# Altium integrated library NSC Amplifier.IntLib: 737 symbols (part 2 of 19)
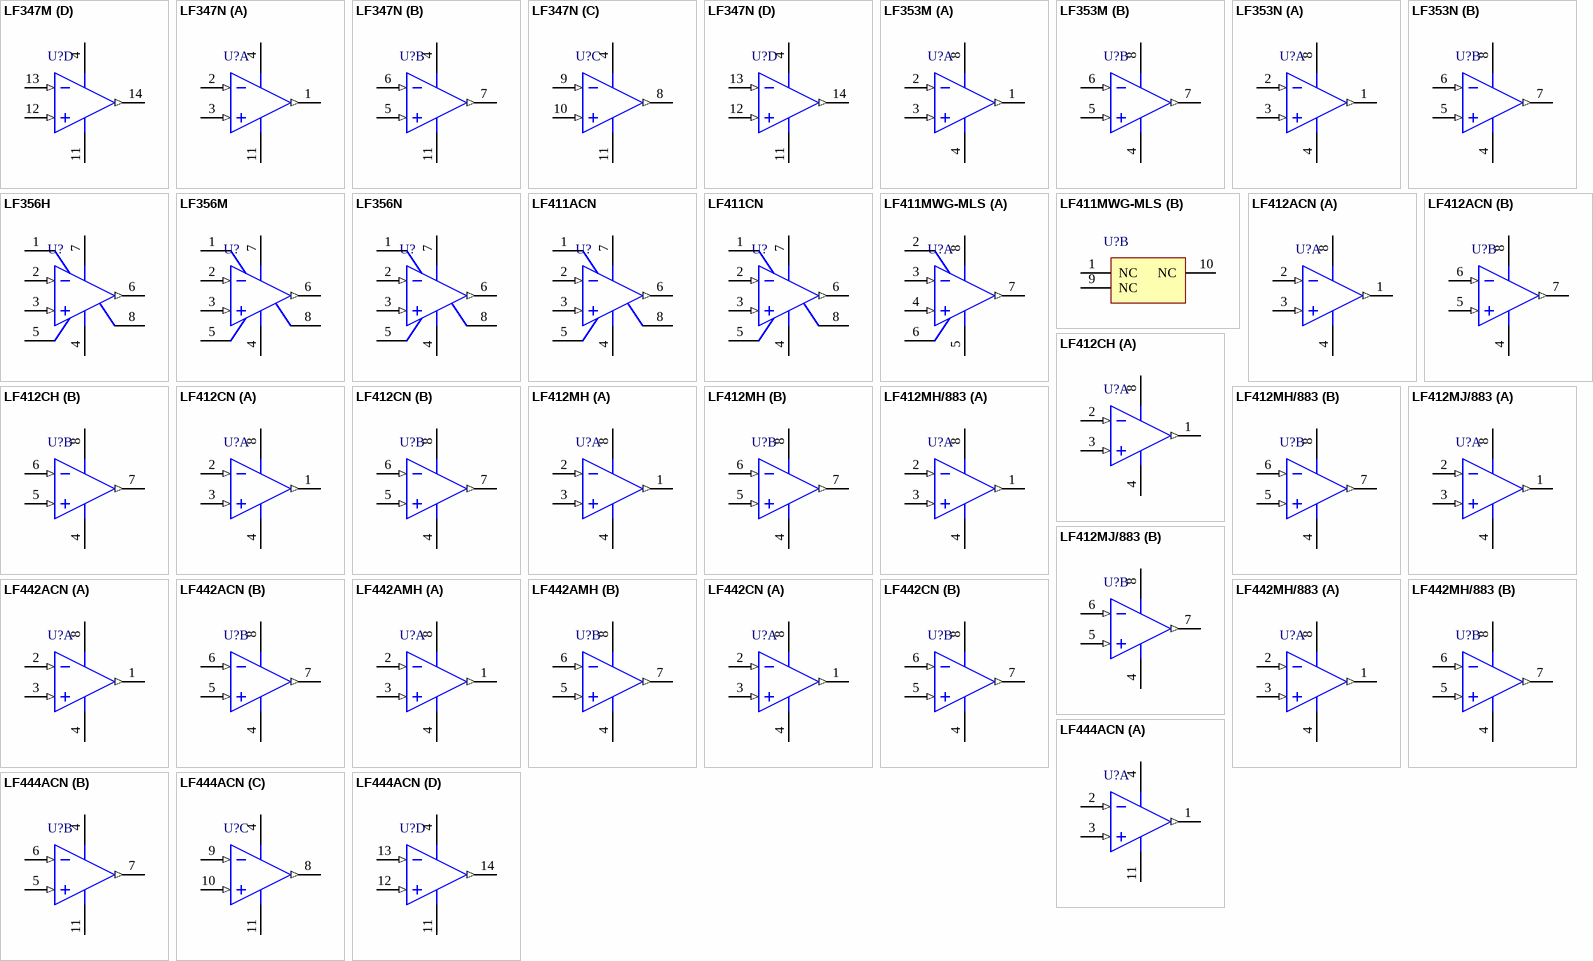
[diagram p40: symbols LF347M to LF444ACN]

## LF412MJ/883
designator U?
Low Offset, Low Drift Dual JFET Input Operational Amplifier; PartNumber: LF412MJ/883; Manufacturer: National Semiconductor; CompType: Amplifiers; PackageTopMarking: NSZSSXXYYA*LF412MJ/*883 Q; PowerWise: N; Published: 4-Dec-2008; LatestRevisionDate: 13-Jan-2009; LatestRevisionNote: Sim Model Added.; DatasheetVersion: Aug-2000; PackageVersion: revM, Jul-2002; PackageReference: J08A; Publisher: Altium Limited; PackageDescription: Cerdip, .400 x .310in Body, 8 Lead, .300in Centers, .100in Pitch; RoHS: N; PinCount: 8; ComponentLink1Description: LF412 Datasheet; ComponentLink1URL: http://www.national.com/ds/LF/LF412.pdf; ComponentLink2Description: LF412 Web Page; ComponentLink2URL: http://www.national.com/pf/LF/LF412.html; ComponentLink3Description: J08A Package Page; ComponentLink3URL: http://www.national.com/packaging/folders/j08a.html
footprint J08A (DIP, 8-Leads, Row Spacing 7.62mm, Pitch 2.54mm, Body 9.78x6.73mm)
simulation model LF412 (SUBCKT)
pins on every part: 4 V- (power), 8 V+ (power)
part A pins: 1 OUTA (out), 2 INA- (in), 3 INA+ (in)
part B pins: 5 INB+ (in), 6 INB- (in), 7 OUTB (out)

## LF442ACN
designator U?
Dual Low Power JFET Input Operational Amplifier; PartNumber: LF442ACN; Manufacturer: National Semiconductor; CompType: Amplifiers; PackageTopMarking: NSUZXYTT*LF*442ACN; PowerWise: N; Published: 4-Dec-2008; LatestRevisionDate: 13-Jan-2009; LatestRevisionNote: Sim Model Added.; DatasheetVersion: Aug-2000; PackageVersion: revG, May-2006; PackageReference: N08E; Publisher: Altium Limited; PackageDescription: MDIP, .365 x .250 x .130in, 8 Lead, .100in Pitch; RoHS: O; PinCount: 8; DigiKeyPartNumber: LF442ACN-ND; Code_JEDEC: MS-001-BA; ComponentLink1Description: LF442 Datasheet; ComponentLink1URL: http://www.national.com/ds/LF/LF442.pdf; ComponentLink2Description: LF442 Web Page; ComponentLink2URL: http://www.national.com/pf/LF/LF442.html; ComponentLink3Description: N08E Package Page; ComponentLink3URL: http://www.national.com/packaging/folders/n08e.html
footprint N08E (DIP, 8-Leads, Row Spacing 7.62mm, Pitch 2.54mm, Body 9.91x6.35mm)
simulation model LF442A (SUBCKT)
pins on every part: 4 V- (power), 8 V+ (power)
part A pins: 1 OUTA (out), 2 INA- (in), 3 INA+ (in)
part B pins: 5 INB+ (in), 6 INB- (in), 7 OUTB (out)

## LF442AMH
designator U?
Dual Low Power JFET Input Operational Amplifier; PartNumber: LF442AMH; Manufacturer: National Semiconductor; CompType: Amplifiers; PackageTopMarking: NSZXYTTE# LF442AMH; PowerWise: N; Published: 4-Dec-2008; LatestRevisionDate: 13-Jan-2009; LatestRevisionNote: Sim Model Added.; DatasheetVersion: Aug-2000; PackageVersion: revF, Jun-1995; PackageReference: H08C; Publisher: Altium Limited; PackageDescription: Metal Can, TO-99, 8 Lead, .200 Dia., P.C.; RoHS: O; PinCount: 8; DigiKeyPartNumber: LF442AMH-ND; Code_JEDEC: TO-99; ComponentLink1Description: LF442 Datasheet; ComponentLink1URL: http://www.national.com/ds/LF/LF442.pdf; ComponentLink2Description: LF442 Web Page; ComponentLink2URL: http://www.national.com/pf/LF/LF442.html; ComponentLink3Description: H08C Package Page; ComponentLink3URL: http://www.national.com/packaging/folders/h08c.html
footprint H08C (Can; 8 Leads; Pin Circle Dia. 5.08 mm; Lead Dia. 0.48 mm (max))
simulation model LF442A (SUBCKT)
pins on every part: 4 V- (power), 8 V+ (power)
part A pins: 1 OUTA (out), 2 INA- (in), 3 INA+ (in)
part B pins: 5 INB+ (in), 6 INB- (in), 7 OUTB (out)

## LF442CN
designator U?
Dual Low Power JFET Input Operational Amplifier; PartNumber: LF442CN; Manufacturer: National Semiconductor; CompType: Amplifiers; PackageTopMarking: NSUZXYTT*LF*442CN; PowerWise: N; Published: 4-Dec-2008; LatestRevisionDate: 13-Jan-2009; LatestRevisionNote: Sim Model Added.; DatasheetVersion: Aug-2000; PackageVersion: revG, May-2006; PackageReference: N08E; Publisher: Altium Limited; PackageDescription: MDIP, .365 x .250 x .130in, 8 Lead, .100in Pitch; RoHS: O; PinCount: 8; DigiKeyPartNumber: LF442CN-ND; Code_JEDEC: MS-001-BA; ComponentLink1Description: LF442 Datasheet; ComponentLink1URL: http://www.national.com/ds/LF/LF442.pdf; ComponentLink2Description: LF442 Web Page; ComponentLink2URL: http://www.national.com/pf/LF/LF442.html; ComponentLink3Description: N08E Package Page; ComponentLink3URL: http://www.national.com/packaging/folders/n08e.html
footprint N08E (DIP, 8-Leads, Row Spacing 7.62mm, Pitch 2.54mm, Body 9.91x6.35mm)
simulation model LF442B (SUBCKT)
pins on every part: 4 V- (power), 8 V+ (power)
part A pins: 1 OUTA (out), 2 INA- (in), 3 INA+ (in)
part B pins: 5 INB+ (in), 6 INB- (in), 7 OUTB (out)

## LF442MH/883
designator U?
Dual Low Power JFET Input Operational Amplifier; PartNumber: LF442MH/883; Manufacturer: National Semiconductor; CompType: Amplifiers; PackageTopMarking: NSZSSXXYYA LF442MH/883 Q*5962-9763301QGA; PowerWise: N; Published: 4-Dec-2008; LatestRevisionDate: 13-Jan-2009; LatestRevisionNote: Sim Model Added.; DatasheetVersion: Aug-2000; PackageVersion: revF, Jun-1995; PackageReference: H08C; Publisher: Altium Limited; PackageDescription: Metal Can, TO-99, 8 Lead, .200 Dia., P.C.; RoHS: N; PinCount: 8; Code_JEDEC: TO-99; ComponentLink1Description: LF442 Datasheet; ComponentLink1URL: http://www.national.com/ds/LF/LF442.pdf; ComponentLink2Description: LF442 Web Page; ComponentLink2URL: http://www.national.com/pf/LF/LF442.html; ComponentLink3Description: H08C Package Page; ComponentLink3URL: http://www.national.com/packaging/folders/h08c.html
footprint H08C (Can; 8 Leads; Pin Circle Dia. 5.08 mm; Lead Dia. 0.48 mm (max))
simulation model LF442B (SUBCKT)
pins on every part: 4 V- (power), 8 V+ (power)
part A pins: 1 OUTA (out), 2 INA- (in), 3 INA+ (in)
part B pins: 5 INB+ (in), 6 INB- (in), 7 OUTB (out)

## LF444ACN
designator U?
Quad Low Power JFET Input Operational Amplifier; PartNumber: LF444ACN; Manufacturer: National Semiconductor; CompType: Amplifiers; PackageTopMarking: NSUZXYYTTE#*LF444ACN; PowerWise: N; Published: 4-Dec-2008; LatestRevisionDate: 13-Jan-2009; LatestRevisionNote: Sim Model Added.; DatasheetVersion: Aug-2000; PackageVersion: revG, May-2006; PackageReference: N14A; Publisher: Altium Limited; PackageDescription: MDIP, .750 x .250 x.130in, 14 Lead, .100in Pitch; RoHS: Y; PinCount: 14; DigiKeyPartNumber: LF444ACN-ND; Code_JEDEC: MS-001-AA; ComponentLink1Description: LF444 Datasheet; ComponentLink1URL: http://www.national.com/ds/LF/LF444.pdf; ComponentLink2Description: LF444 Web Page; ComponentLink2URL: http://www.national.com/pf/LF/LF444.html; ComponentLink3Description: N14A Package Page; ComponentLink3URL: http://www.national.com/packaging/folders/n14a.html
footprint N14A (DIP, 14-Leads, Row Spacing 7.62mm, Pitch 2.54mm, Body 19.56x6.35mm)
simulation model LF444A (SUBCKT)
pins on every part: 4 V+ (power), 11 V- (power)
part A pins: 1 OUT1 (out), 2 IN1- (in), 3 IN1+ (in)
part B pins: 5 IN2+ (in), 6 IN2- (in), 7 OUT2 (out)
part C pins: 8 OUT3 (out), 9 IN3- (in), 10 IN3+ (in)
part D pins: 12 IN4+ (in), 13 IN4- (in), 14 OUT4 (out)

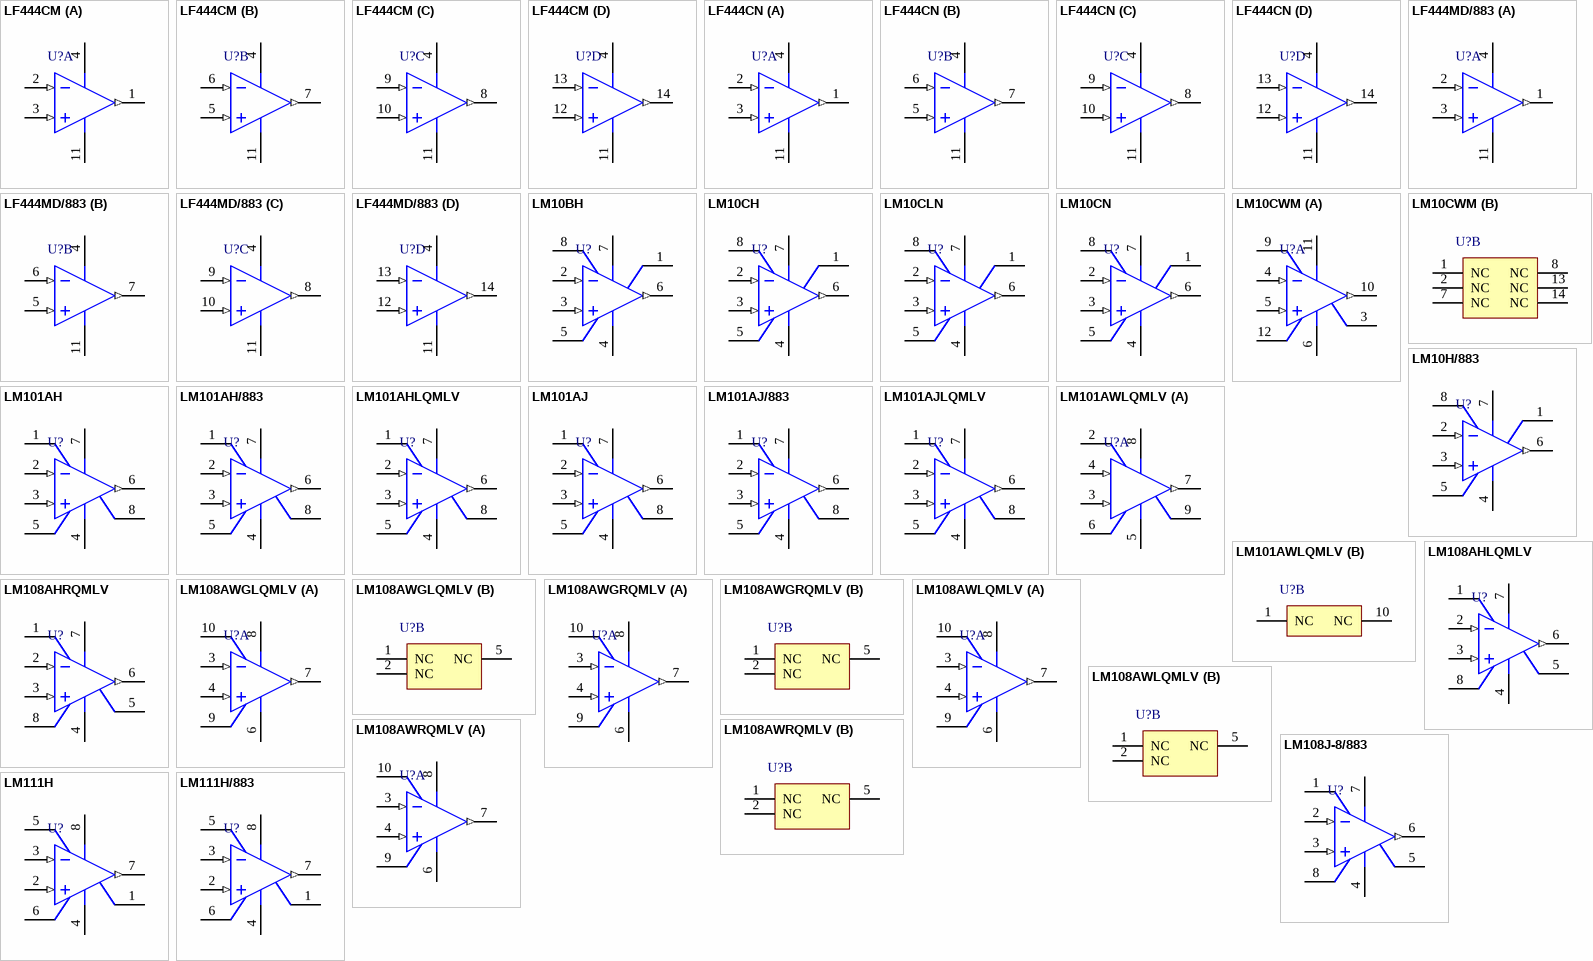
[diagram p3: symbols LF444CM to LM111H/883]

## LF444CM
designator U?
Quad Low Power JFET Input Operational Amplifier; PartNumber: LF444CM; Manufacturer: National Semiconductor; CompType: Amplifiers; PackageTopMarking: NSUZXYTT*LF444CM; PowerWise: N; Published: 4-Dec-2008; DatasheetVersion: Aug-2000; PackageVersion: revJ, Jan-1996; PackageReference: M14A; Publisher: Altium Limited; PackageDescription: Molded Package S.O., .150in Wide, 14 Lead; RoHS: O; PinCount: 14; DigiKeyPartNumber: LF444CM-ND; Code_JEDEC: MS-012AB; Code_IPC: SOIC127P600-14; ComponentLink1Description: LF444 Datasheet; ComponentLink1URL: http://www.national.com/ds/LF/LF444.pdf; ComponentLink2Description: LF444 Web Page; ComponentLink2URL: http://www.national.com/pf/LF/LF444.html; ComponentLink3Description: M14A Package Page; ComponentLink3URL: http://www.national.com/packaging/folders/m14a.html
footprint M14A_N (SOIC, 14-Leads, Body 8.6x3.9mm, Pitch 1.27mm, IPC Medium Density)
footprint M14A_L (SOIC, 14-Leads, Body 8.6x3.9mm, Pitch 1.27mm, IPC High Density)
footprint M14A_M (SOIC, 14-Leads, Body 8.6x3.9mm, Pitch 1.27mm, IPC Low Density)
pins on every part: 4 V+ (power), 11 V- (power)
part A pins: 1 OUT1 (out), 2 IN1- (in), 3 IN1+ (in)
part B pins: 5 IN2+ (in), 6 IN2- (in), 7 OUT2 (out)
part C pins: 8 OUT3 (out), 9 IN3- (in), 10 IN3+ (in)
part D pins: 12 IN4+ (in), 13 IN4- (in), 14 OUT4 (out)

## LF444CN
designator U?
Quad Low Power JFET Input Operational Amplifier; PartNumber: LF444CN; Manufacturer: National Semiconductor; CompType: Amplifiers; PackageTopMarking: NSUZXYYTTE#*LF444CN; PowerWise: N; Published: 4-Dec-2008; DatasheetVersion: Aug-2000; PackageVersion: revG, May-2006; PackageReference: N14A; Publisher: Altium Limited; PackageDescription: MDIP, .750 x .250 x.130in, 14 Lead, .100in Pitch; RoHS: O; PinCount: 14; DigiKeyPartNumber: LF444CN-ND; Code_JEDEC: MS-001-AA; ComponentLink1Description: LF444 Datasheet; ComponentLink1URL: http://www.national.com/ds/LF/LF444.pdf; ComponentLink2Description: LF444 Web Page; ComponentLink2URL: http://www.national.com/pf/LF/LF444.html; ComponentLink3Description: N14A Package Page; ComponentLink3URL: http://www.national.com/packaging/folders/n14a.html
footprint N14A (DIP, 14-Leads, Row Spacing 7.62mm, Pitch 2.54mm, Body 19.56x6.35mm)
pins on every part: 4 V+ (power), 11 V- (power)
part A pins: 1 OUT1 (out), 2 IN1- (in), 3 IN1+ (in)
part B pins: 5 IN2+ (in), 6 IN2- (in), 7 OUT2 (out)
part C pins: 8 OUT3 (out), 9 IN3- (in), 10 IN3+ (in)
part D pins: 12 IN4+ (in), 13 IN4- (in), 14 OUT4 (out)

## LF444MD/883
designator U?
Quad Low Power JFET Input Operational Amplifier; PartNumber: LF444MD/883; Manufacturer: National Semiconductor; CompType: Amplifiers; PackageTopMarking: NSZSSXXYYA*LF444MD*/883 Q; PowerWise: N; Published: 4-Dec-2008; LatestRevisionDate: 13-Jan-2009; LatestRevisionNote: Sim Model Added.; DatasheetVersion: Aug-2000; PackageVersion: revJ, Jun-1994; PackageReference: D14D; Publisher: Altium Limited; PackageDescription: Dip, Sidebrazed Ceramic, 14 Lead; RoHS: N; PinCount: 14; ComponentLink1Description: LF444 Datasheet; ComponentLink1URL: http://www.national.com/ds/LF/LF444.pdf; ComponentLink2Description: LF444 Web Page; ComponentLink2URL: http://www.national.com/pf/LF/LF444.html; ComponentLink3Description: D14D Package Page; ComponentLink3URL: http://www.national.com/packaging/folders/d14d.html
footprint D14D (DIP, 14-Leads, Row Spacing 7.62mm, Pitch 2.54mm, Body 17.78x7.3mm)
simulation model LF444B (SUBCKT)
pins on every part: 4 V+ (power), 11 V- (power)
part A pins: 1 OUT1 (out), 2 IN1- (in), 3 IN1+ (in)
part B pins: 5 IN2+ (in), 6 IN2- (in), 7 OUT2 (out)
part C pins: 8 OUT3 (out), 9 IN3- (in), 10 IN3+ (in)
part D pins: 12 IN4+ (in), 13 IN4- (in), 14 OUT4 (out)

## LM10BH
designator U?
Operational Amplifier and Voltage Reference; PartNumber: LM10BH; Manufacturer: National Semiconductor; CompType: Amplifiers; PackageTopMarking: NSZXYTTE# LM10BH; PowerWise: N; Published: 4-Dec-2008; DatasheetVersion: Aug-2000; PackageVersion: revC, Sep-1988; PackageReference: H08A; Publisher: Altium Limited; PackageDescription: 8 Lead, .230in Dia., P.C. Metal Can Package (H); RoHS: O; PinCount: 8; ComponentLink1Description: LM10 Datasheet; ComponentLink1URL: http://www.national.com/ds/LM/LM10.pdf; ComponentLink2Description: LM10 Web Page; ComponentLink2URL: http://www.national.com/pf/LM/LM10.html; ComponentLink3Description: H08A Package Page; ComponentLink3URL: http://www.national.com/packaging/folders/h08a.html
footprint H08A (Can; 8 Leads; Pin Circle Dia. 5.84 mm; Lead Dia. 0.48 mm (max))
pins: 1 REF OUT, 2 IN- (in), 3 IN+ (in), 4 V- (power), 5 BAL, 6 OUT (out), 7 V+ (power), 8 REF FB

## LM10CH
designator U?
Operational Amplifier and Voltage Reference; PartNumber: LM10CH; Manufacturer: National Semiconductor; CompType: Amplifiers; PackageTopMarking: NSZXYTTE# LM10CH; PowerWise: N; Published: 4-Dec-2008; DatasheetVersion: Aug-2000; PackageVersion: revC, Sep-1988; PackageReference: H08A; Publisher: Altium Limited; PackageDescription: 8 Lead, .230in Dia., P.C. Metal Can Package (H); RoHS: O; PinCount: 8; DigiKeyPartNumber: LM10CH-ND; ComponentLink1Description: LM10 Datasheet; ComponentLink1URL: http://www.national.com/ds/LM/LM10.pdf; ComponentLink2Description: LM10 Web Page; ComponentLink2URL: http://www.national.com/pf/LM/LM10.html; ComponentLink3Description: H08A Package Page; ComponentLink3URL: http://www.national.com/packaging/folders/h08a.html
footprint H08A (Can; 8 Leads; Pin Circle Dia. 5.84 mm; Lead Dia. 0.48 mm (max))
pins: 1 REF OUT, 2 IN- (in), 3 IN+ (in), 4 V- (power), 5 BAL, 6 OUT (out), 7 V+ (power), 8 REF FB

## LM10CLN
designator U?
Operational Amplifier and Voltage Reference; PartNumber: LM10CLN; Manufacturer: National Semiconductor; CompType: Amplifiers; PackageTopMarking: NSUZXYTT*LM10CLN; PowerWise: N; Published: 4-Dec-2008; DatasheetVersion: Aug-2000; PackageVersion: revG, May-2006; PackageReference: N08E; Publisher: Altium Limited; PackageDescription: MDIP, .365 x .250 x .130in, 8 Lead, .100in Pitch; RoHS: O; PinCount: 8; DigiKeyPartNumber: LM10CLN-ND; Code_JEDEC: MS-001-BA; ComponentLink1Description: LM10 Datasheet; ComponentLink1URL: http://www.national.com/ds/LM/LM10.pdf; ComponentLink2Description: LM10 Web Page; ComponentLink2URL: http://www.national.com/pf/LM/LM10.html; ComponentLink3Description: N08E Package Page; ComponentLink3URL: http://www.national.com/packaging/folders/n08e.html
footprint N08E (DIP, 8-Leads, Row Spacing 7.62mm, Pitch 2.54mm, Body 9.91x6.35mm)
pins: 1 REF OUT, 2 IN- (in), 3 IN+ (in), 4 V- (power), 5 BAL, 6 OUT (out), 7 V+ (power), 8 REF FB

## LM10CN
designator U?
Operational Amplifier and Voltage Reference; PartNumber: LM10CN; Manufacturer: National Semiconductor; CompType: Amplifiers; PackageTopMarking: NSUZXYTT*LM*10CN; PowerWise: N; Published: 4-Dec-2008; DatasheetVersion: Aug-2000; PackageVersion: revG, May-2006; PackageReference: N08E; Publisher: Altium Limited; PackageDescription: MDIP, .365 x .250 x .130in, 8 Lead, .100in Pitch; RoHS: O; PinCount: 8; DigiKeyPartNumber: LM10CN-ND; Code_JEDEC: MS-001-BA; ComponentLink1Description: LM10 Datasheet; ComponentLink1URL: http://www.national.com/ds/LM/LM10.pdf; ComponentLink2Description: LM10 Web Page; ComponentLink2URL: http://www.national.com/pf/LM/LM10.html; ComponentLink3Description: N08E Package Page; ComponentLink3URL: http://www.national.com/packaging/folders/n08e.html
footprint N08E (DIP, 8-Leads, Row Spacing 7.62mm, Pitch 2.54mm, Body 9.91x6.35mm)
pins: 1 REF OUT, 2 IN- (in), 3 IN+ (in), 4 V- (power), 5 BAL, 6 OUT (out), 7 V+ (power), 8 REF FB

## LM10CWM
designator U?
Operational Amplifier and Voltage Reference; PartNumber: LM10CWM; Manufacturer: National Semiconductor; CompType: Amplifiers; PackageTopMarking: NSUZXYTT*LM10CWM; PowerWise: N; Published: 4-Dec-2008; DatasheetVersion: Aug-2000; PackageVersion: revD, Feb-1987; PackageReference: M14B; Publisher: Altium Limited; PackageDescription: Molded Package, S.O., .300in Wide, 14 Lead; RoHS: O; PinCount: 14; DigiKeyPartNumber: LM10CWM-ND; Code_JEDEC: MS-013-AF; Code_IPC: SOIC127P1030-14; ComponentLink1Description: LM10 Datasheet; ComponentLink1URL: http://www.national.com/ds/LM/LM10.pdf; ComponentLink2Description: LM10 Web Page; ComponentLink2URL: http://www.national.com/pf/LM/LM10.html; ComponentLink3Description: M14B Package Page; ComponentLink3URL: http://www.national.com/packaging/folders/m14b.html
footprint M14B_N (SOIC, 14-Leads, Body 9x7.5mm, Pitch 1.27mm, IPC Medium Density)
footprint M14B_L (SOIC, 14-Leads, Body 9x7.5mm, Pitch 1.27mm, IPC High Density)
footprint M14B_M (SOIC, 14-Leads, Body 9x7.5mm, Pitch 1.27mm, IPC Low Density)
part A pins: 3 REF OUT, 4 IN- (in), 5 IN+ (in), 6 V- (power), 9 BAL, 10 OUT (out), 11 V+ (power), 12 REF FB
part B pins: 1 NC, 2 NC, 7 NC, 8 NC, 13 NC, 14 NC

## LM10H/883
designator U?
Operational Amplifier and Voltage Reference; PartNumber: LM10H/883; Manufacturer: National Semiconductor; CompType: Amplifiers; PackageTopMarking: NS ZSSXXYYA LM10H/883 Q*5962-8760401GA; PowerWise: N; Published: 4-Dec-2008; DatasheetVersion: Aug-2000; PackageVersion: revC, Sep-1988; PackageReference: H08A; Publisher: Altium Limited; PackageDescription: 8 Lead, .230in Dia., P.C. Metal Can Package (H); RoHS: N; PinCount: 8; ComponentLink1Description: LM10 Datasheet; ComponentLink1URL: http://www.national.com/ds/LM/LM10.pdf; ComponentLink2Description: LM10 Web Page; ComponentLink2URL: http://www.national.com/pf/LM/LM10.html; ComponentLink3Description: H08A Package Page; ComponentLink3URL: http://www.national.com/packaging/folders/h08a.html
footprint H08A (Can; 8 Leads; Pin Circle Dia. 5.84 mm; Lead Dia. 0.48 mm (max))
pins: 1 REF OUT, 2 IN- (in), 3 IN+ (in), 4 V- (power), 5 BAL, 6 OUT (out), 7 V+ (power), 8 REF FB

## LM101AH
designator U?
Operational Amplifier; PartNumber: LM101AH; Manufacturer: National Semiconductor; CompType: Amplifiers; PackageTopMarking: NSZXYTTE# LM101AH; PowerWise: N; Published: 4-Dec-2008; DatasheetVersion: Aug-2000; PackageVersion: revF, Jun-1995; PackageReference: H08C; Publisher: Altium Limited; PackageDescription: Metal Can, TO-99, 8 Lead, .200 Dia., P.C.; RoHS: O; PinCount: 8; Code_JEDEC: TO-99; ComponentLink1Description: LM101A Datasheet; ComponentLink1URL: http://www.national.com/ds/LM/LM101A.pdf; ComponentLink2Description: LM101A Web Page; ComponentLink2URL: http://www.national.com/pf/LM/LM101A.html; ComponentLink3Description: H08C Package Page; ComponentLink3URL: http://www.national.com/packaging/folders/h08c.html
footprint H08C (Can; 8 Leads; Pin Circle Dia. 5.08 mm; Lead Dia. 0.48 mm (max))
pins: 1 BAL/COMP, 2 IN- (in), 3 IN+ (in), 4 V- (power), 5 BAL, 6 OUT (out), 7 V+ (power), 8 COMP

## LM101AH/883
designator U?
Operational Amplifier; PartNumber: LM101A; Manufacturer: National Semiconductor; CompType: Amplifiers; PackageTopMarking: NSZSSXXYYA LM101AH/883 Q; PowerWise: N; Published: 4-Dec-2008; DatasheetVersion: Aug-2000; PackageVersion: revF, Jun-1995; PackageReference: H08C; Publisher: Altium Limited; PackageDescription: Metal Can, TO-99, 8 Lead, .200 Dia., P.C.; RoHS: N; PinCount: 8; Code_JEDEC: TO-99; ComponentLink1Description: LM101A Datasheet; ComponentLink1URL: http://www.national.com/ds/LM/LM101A.pdf; ComponentLink2Description: LM101A Web Page; ComponentLink2URL: http://www.national.com/pf/LM/LM101A.html; ComponentLink3Description: H08C Package Page; ComponentLink3URL: http://www.national.com/packaging/folders/h08c.html
footprint H08C (Can; 8 Leads; Pin Circle Dia. 5.08 mm; Lead Dia. 0.48 mm (max))
pins: 1 BAL/COMP, 2 IN- (in), 3 IN+ (in), 4 V- (power), 5 BAL, 6 OUT (out), 7 V+ (power), 8 COMP

## LM101AHLQMLV
designator U?
Operational Amplifier; PartNumber: LM101AHLQMLV; Manufacturer: National Semiconductor; CompType: Amplifiers; PackageTopMarking: NSZSSXXYYA LM101AHLQMLV*5962L9951501VGA Q; PowerWise: N; Published: 4-Dec-2008; DatasheetVersion: Aug-2000; PackageVersion: revF, Jun-1995; PackageReference: H08C; Publisher: Altium Limited; PackageDescription: Metal Can, TO-99, 8 Lead, .200 Dia., P.C.; RoHS: N; PinCount: 8; Code_JEDEC: TO-99; ComponentLink1Description: LM101A Datasheet; ComponentLink1URL: http://www.national.com/ds/LM/LM101A.pdf; ComponentLink2Description: LM101A Web Page; ComponentLink2URL: http://www.national.com/pf/LM/LM101A.html; ComponentLink3Description: H08C Package Page; ComponentLink3URL: http://www.national.com/packaging/folders/h08c.html
footprint H08C (Can; 8 Leads; Pin Circle Dia. 5.08 mm; Lead Dia. 0.48 mm (max))
pins: 1 BAL/COMP, 2 IN- (in), 3 IN+ (in), 4 V- (power), 5 BAL, 6 OUT (out), 7 V+ (power), 8 COMP

## LM101AJ
designator U?
Operational Amplifier; PartNumber: LM101AJ; Manufacturer: National Semiconductor; CompType: Amplifiers; PackageTopMarking: NSUZXYTT*LM101AJ; PowerWise: N; Published: 4-Dec-2008; DatasheetVersion: Aug-2000; PackageVersion: revM, Jul-2002; PackageReference: J08A; Publisher: Altium Limited; PackageDescription: Cerdip, .400 x .310in Body, 8 Lead, .300in Centers, .100in Pitch; RoHS: N; PinCount: 8; DigiKeyPartNumber: LM101AJ-ND; ComponentLink1Description: LM101A Datasheet; ComponentLink1URL: http://www.national.com/ds/LM/LM101A.pdf; ComponentLink2Description: LM101A Web Page; ComponentLink2URL: http://www.national.com/pf/LM/LM101A.html; ComponentLink3Description: J08A Package Page; ComponentLink3URL: http://www.national.com/packaging/folders/j08a.html
footprint J08A (DIP, 8-Leads, Row Spacing 7.62mm, Pitch 2.54mm, Body 9.78x6.73mm)
pins: 1 BAL/COMP, 2 IN- (in), 3 IN+ (in), 4 V- (power), 5 BAL, 6 OUT (out), 7 V+ (power), 8 COMP

## LM101AJ/883
designator U?
Operational Amplifier; PartNumber: LM101AJ/883; Manufacturer: National Semiconductor; CompType: Amplifiers; PackageTopMarking: NSZSSXXYYA*LM101AJ/*883 Q; PowerWise: N; Published: 4-Dec-2008; DatasheetVersion: Aug-2000; PackageVersion: revM, Jul-2002; PackageReference: J08A; Publisher: Altium Limited; PackageDescription: Cerdip, .400 x .310in Body, 8 Lead, .300in Centers, .100in Pitch; RoHS: N; PinCount: 8; ComponentLink1Description: LM101A Datasheet; ComponentLink1URL: http://www.national.com/ds/LM/LM101A.pdf; ComponentLink2Description: LM101A Web Page; ComponentLink2URL: http://www.national.com/pf/LM/LM101A.html; ComponentLink3Description: J08A Package Page; ComponentLink3URL: http://www.national.com/packaging/folders/j08a.html
footprint J08A (DIP, 8-Leads, Row Spacing 7.62mm, Pitch 2.54mm, Body 9.78x6.73mm)
pins: 1 BAL/COMP, 2 IN- (in), 3 IN+ (in), 4 V- (power), 5 BAL, 6 OUT (out), 7 V+ (power), 8 COMP

## LM101AJLQMLV
designator U?
Operational Amplifier; PartNumber: LM101AJLQMLV; Manufacturer: National Semiconductor; CompType: Amplifiers; PackageTopMarking: NSZSSXXYYA*LM101AJL*QV Q 5962L*9951501VPA; PowerWise: N; Published: 4-Dec-2008; DatasheetVersion: Aug-2000; PackageVersion: revM, Jul-2002; PackageReference: J08A; Publisher: Altium Limited; PackageDescription: Cerdip, .400 x .310in Body, 8 Lead, .300in Centers, .100in Pitch; RoHS: N; PinCount: 8; ComponentLink1Description: LM101A Datasheet; ComponentLink1URL: http://www.national.com/ds/LM/LM101A.pdf; ComponentLink2Description: LM101A Web Page; ComponentLink2URL: http://www.national.com/pf/LM/LM101A.html; ComponentLink3Description: J08A Package Page; ComponentLink3URL: http://www.national.com/packaging/folders/j08a.html
footprint J08A (DIP, 8-Leads, Row Spacing 7.62mm, Pitch 2.54mm, Body 9.78x6.73mm)
pins: 1 BAL/COMP, 2 IN- (in), 3 IN+ (in), 4 V- (power), 5 BAL, 6 OUT (out), 7 V+ (power), 8 COMP

## LM101AWLQMLV
designator U?
Operational Amplifier; PartNumber: LM101AWLQMLV; Manufacturer: National Semiconductor; CompType: Amplifiers; PackageTopMarking: NS L99515*01VHA*LM101AW*LQV Q*ZSSXXYYA; PowerWise: N; Published: 4-Dec-2008; DatasheetVersion: Aug-2000; PackageVersion: revH, Sep-2003; PackageReference: W10A; Publisher: Altium Limited; PackageDescription: Cerpack, .270 x .241 x .067in Body, 10 Lead, .050in Pitch; RoHS: N; PinCount: 10; Code_JEDEC: MS-033-AA; ComponentLink1Description: LM101A Datasheet; ComponentLink1URL: http://www.national.com/ds/LM/LM101A.pdf; ComponentLink2Description: LM101A Web Page; ComponentLink2URL: http://www.national.com/pf/LM/LM101A.html; ComponentLink3Description: W10A Package Page; ComponentLink3URL: http://www.national.com/packaging/folders/w10a.html
footprint W10A (DFP; 10 Leads; Body 6.9 x 6.9 mm (LxW max); Pitch 1.27 mm)
part A pins: 2 BAL, 3 IN (in), 4 IN (in), 5 V- (power), 6 BAL, 7 OUT (out), 8 V+ (power), 9 COMP
part B pins: 1 NC, 10 NC

## LM108AHLQMLV
designator U?
Prescision Operational Amplifier; PartNumber: LM108AHLQMLV; Manufacturer: National Semiconductor; CompType: Amplifiers; PackageTopMarking: NSZSSXXYYA LM108AHLQV Q*5962L9863702VGA; PowerWise: N; MilaeroCode: DXX; Published: 29-May-2009; DatasheetVersion: Dec-2005; PackageVersion: revF, Jun-1995; PackageReference: H08C; Publisher: Altium Limited; PackageDescription: Metal Can, TO-99, 8 Lead, .200 Dia., P.C.; RoHS: N; PinCount: 8; Code_JEDEC: TO-99; ComponentLink1Description: LM108A Datasheet; ComponentLink1URL: http://www.national.com/ds/LM/LM108.pdf; ComponentLink2Description: LM108A Web Page; ComponentLink2URL: http://www.national.com/opf/LM/LM108A.html; ComponentLink3Description: H08C Package Page; ComponentLink3URL: http://www.national.com/packaging/folders/h08c.html
footprint H08C (Can; 8 Leads; Pin Circle Dia. 5.08 mm; Lead Dia. 0.48 mm (max))
pins: 1 COMP1, 2 IN- (in), 3 IN+ (in), 4 V- (power), 5 NC, 6 OUT (out), 7 V+ (power), 8 COMP2

## LM108AHRQMLV
designator U?
Prescision Operational Amplifier; PartNumber: LM108AHRQMLV; Manufacturer: National Semiconductor; CompType: Amplifiers; PackageTopMarking: NSZSSXXYYA LM108AHRQV Q*5962R9863702VGA; Published: 4-Dec-2008; DatasheetVersion: Dec-2005; PackageVersion: revF, Jun-1995; PackageReference: H08C; Publisher: Altium Limited; PackageDescription: Metal Can, TO-99, 8 Lead, .200 Dia., P.C.; RoHS: N; PinCount: 8; Code_JEDEC: TO-99; ComponentLink1Description: LM108A Datasheet; ComponentLink1URL: http://www.national.com/ds/LM/LM108.pdf; ComponentLink2Description: LM108A Web Page; ComponentLink2URL: http://www.national.com/opf/LM/LM108A.html; ComponentLink3Description: H08C Package Page; ComponentLink3URL: http://www.national.com/packaging/folders/h08c.html
footprint H08C (Can; 8 Leads; Pin Circle Dia. 5.08 mm; Lead Dia. 0.48 mm (max))
pins: 1 COMP1, 2 IN- (in), 3 IN+ (in), 4 V- (power), 5 NC, 6 OUT (out), 7 V+ (power), 8 COMP2

## LM108AWGLQMLV
designator U?
Prescision Operational Amplifier; PartNumber: LM108AWGLQMLV; Manufacturer: National Semiconductor; CompType: Amplifiers; PackageTopMarking: NSZSSXXYYA*L9863702*VZA Q*LM108AWG*LQMLV; PowerWise: N; MilaeroCode: DXX; Published: 29-May-2009; DatasheetVersion: Dec-2005; PackageVersion: revF, Oct-2008; PackageReference: WG10A; Publisher: Altium Limited; PackageDescription: Cerpack, .270 x .241 x .070in, 10 Lead, .050in Pitch, Gull Wing; RoHS: N; PinCount: 10; ComponentLink1Description: LM108A Datasheet; ComponentLink1URL: http://www.national.com/ds/LM/LM108.pdf; ComponentLink2Description: LM108A Web Page; ComponentLink2URL: http://www.national.com/opf/LM/LM108A.html; ComponentLink3Description: WG10A Package Page; ComponentLink3URL: http://www.national.com/packaging/folders/wg10a.html
footprint WG10A_N (CERPACK, 10-Leads, Body 6.9x6.3mm, Pitch 1.27mm, IPC Medium Density)
footprint WG10A_L (CERPACK, 10-Leads, Body 6.9x6.3mm, Pitch 1.27mm, IPC High Density)
footprint WG10A_M (CERPACK, 10-Leads, Body 6.9x6.3mm, Pitch 1.27mm, IPC Low Density)
part A pins: 3 IN- (in), 4 IN+ (in), 6 V- (power), 7 OUT (out), 8 V+ (power), 9 COMP2, 10 COMP1
part B pins: 1 NC, 2 NC, 5 NC

## LM108AWGRQMLV
designator U?
Prescision Operational Amplifier; PartNumber: LM108AWGRQMLV; Manufacturer: National Semiconductor; CompType: Amplifiers; PackageTopMarking: NS R98637*02VZA Q*LM108AWG*RQMLV*ZSSXXYYA; Published: 4-Dec-2008; DatasheetVersion: Dec-2005; PackageVersion: revF, Oct-2008; PackageReference: WG10A; Publisher: Altium Limited; PackageDescription: Cerpack, .270 x .241 x .070in, 10 Lead, .050in Pitch, Gull Wing; RoHS: N; PinCount: 10; ComponentLink1Description: LM108A Datasheet; ComponentLink1URL: http://www.national.com/ds/LM/LM108.pdf; ComponentLink2Description: LM108A Web Page; ComponentLink2URL: http://www.national.com/opf/LM/LM108A.html; ComponentLink3Description: WG10A Package Page; ComponentLink3URL: http://www.national.com/packaging/folders/wg10a.html
footprint WG10A_N (CERPACK, 10-Leads, Body 6.9x6.3mm, Pitch 1.27mm, IPC Medium Density)
footprint WG10A_L (CERPACK, 10-Leads, Body 6.9x6.3mm, Pitch 1.27mm, IPC High Density)
footprint WG10A_M (CERPACK, 10-Leads, Body 6.9x6.3mm, Pitch 1.27mm, IPC Low Density)
part A pins: 3 IN- (in), 4 IN+ (in), 6 V- (power), 7 OUT (out), 8 V+ (power), 9 COMP2, 10 COMP1
part B pins: 1 NC, 2 NC, 5 NC

## LM108AWLQMLV
designator U?
Prescision Operational Amplifier; PartNumber: LM108AWLQMLV; Manufacturer: National Semiconductor; CompType: Amplifiers; PackageTopMarking: NSZSSXXYYA*LR9863702*VHA Q*LM108AW*LQMLV; PowerWise: N; MilaeroCode: DXX; Published: 29-May-2009; DatasheetVersion: Dec-2005; PackageVersion: revH, Sep-2003; PackageReference: W10A; Publisher: Altium Limited; PackageDescription: Cerpack, .270 x .241 x .067in Body, 10 Lead, .050in Pitch; RoHS: N; PinCount: 10; Code_JEDEC: MS-033-AA; ComponentLink1Description: LM108A Datasheet; ComponentLink1URL: http://www.national.com/ds/LM/LM108.pdf; ComponentLink2Description: LM108A Web Page; ComponentLink2URL: http://www.national.com/opf/LM/LM108A.html; ComponentLink3Description: W10A Package Page; ComponentLink3URL: http://www.national.com/packaging/folders/w10a.html
footprint W10A (DFP; 10 Leads; Body 6.9 x 6.9 mm (LxW max); Pitch 1.27 mm)
part A pins: 3 IN- (in), 4 IN+ (in), 6 V- (power), 7 OUT (out), 8 V+ (power), 9 COMP2, 10 COMP1
part B pins: 1 NC, 2 NC, 5 NC

## LM108AWRQMLV
designator U?
Prescision Operational Amplifier; PartNumber: LM108AWRQMLV; Manufacturer: National Semiconductor; CompType: Amplifiers; PackageTopMarking: NS R98637*02VHA Q*LM108AW*RQMLV*ZSSXXYYA; Published: 4-Dec-2008; DatasheetVersion: Dec-2005; PackageVersion: revH, Sep-2003; PackageReference: W10A; Publisher: Altium Limited; PackageDescription: Cerpack, .270 x .241 x .067in Body, 10 Lead, .050in Pitch; RoHS: N; PinCount: 10; Code_JEDEC: MS-033-AA; ComponentLink1Description: LM108A Datasheet; ComponentLink1URL: http://www.national.com/ds/LM/LM108.pdf; ComponentLink2Description: LM108A Web Page; ComponentLink2URL: http://www.national.com/opf/LM/LM108A.html; ComponentLink3Description: W10A Package Page; ComponentLink3URL: http://www.national.com/packaging/folders/w10a.html
footprint W10A (DFP; 10 Leads; Body 6.9 x 6.9 mm (LxW max); Pitch 1.27 mm)
part A pins: 3 IN- (in), 4 IN+ (in), 6 V- (power), 7 OUT (out), 8 V+ (power), 9 COMP2, 10 COMP1
part B pins: 1 NC, 2 NC, 5 NC

## LM108J-8/883
designator U?
Operational Amplifier; PartNumber: LM108J-8/883; Manufacturer: National Semiconductor; CompType: Amplifiers; PackageTopMarking: NSZSSXXYYA*LM108J-8*/883 Q; Published: 4-Dec-2008; DatasheetVersion: Dec-2005; PackageVersion: revM, Jul-2002; PackageReference: J08A; Publisher: Altium Limited; PackageDescription: Cerdip, .400 x .310in Body, 8 Lead, .300in Centers, .100in Pitch; RoHS: N; PinCount: 8; ComponentLink1Description: LM108 Datasheet; ComponentLink1URL: http://www.national.com/ds/LM/LM108.pdf; ComponentLink2Description: LM108 Web Page; ComponentLink2URL: http://www.national.com/pf/LM/LM108.html; ComponentLink3Description: J08A Package Page; ComponentLink3URL: http://www.national.com/packaging/folders/j08a.html
footprint J08A (DIP, 8-Leads, Row Spacing 7.62mm, Pitch 2.54mm, Body 9.78x6.73mm)
pins: 1 COMP1, 2 IN- (in), 3 IN+ (in), 4 V- (power), 5 NC, 6 OUT (out), 7 V+ (power), 8 COMP2

## LM111H
designator U?
Voltage Comparator; PartNumber: LM111H; Manufacturer: National Semiconductor; CompType: Amplifiers; PackageTopMarking: NSZXYTTE# LM111H; PowerWise: N; Published: 4-Dec-2008; LatestRevisionDate: 13-Jan-2009; LatestRevisionNote: Sim Model Added.; DatasheetVersion: Jan-2001; PackageVersion: revF, Jun-1995; PackageReference: H08C; Publisher: Altium Limited; PackageDescription: Metal Can, TO-99, 8 Lead, .200 Dia., P.C.; RoHS: O; PinCount: 8; DigiKeyPartNumber: LM111H-ND; Code_JEDEC: TO-99; ComponentLink1Description: LM111 Datasheet; ComponentLink1URL: http://www.national.com/ds/LM/LM111.pdf; ComponentLink2Description: LM111 Web Page; ComponentLink2URL: http://www.national.com/pf/LM/LM111.html; ComponentLink3Description: H08C Package Page; ComponentLink3URL: http://www.national.com/packaging/folders/h08c.html
footprint H08C (Can; 8 Leads; Pin Circle Dia. 5.08 mm; Lead Dia. 0.48 mm (max))
simulation model LM111 (SUBCKT)
pins: 1 GND (power), 2 IN+ (in), 3 IN- (in), 4 V- (power), 5 BAL, 6 BAL/STB, 7 OUT (out), 8 V+ (power)

## LM111H/883
designator U?
Voltage Comparator; PartNumber: LM111H/883; Manufacturer: National Semiconductor; CompType: Amplifiers; PackageTopMarking: NSZSSXXYYA LM111H/883 Q; PowerWise: N; Published: 4-Dec-2008; LatestRevisionDate: 13-Jan-2009; LatestRevisionNote: Sim Model Added.; DatasheetVersion: Jan-2001; PackageVersion: revF, Jun-1995; PackageReference: H08C; Publisher: Altium Limited; PackageDescription: Metal Can, TO-99, 8 Lead, .200 Dia., P.C.; RoHS: N; PinCount: 8; Code_JEDEC: TO-99; ComponentLink1Description: LM111 Datasheet; ComponentLink1URL: http://www.national.com/ds/LM/LM111.pdf; ComponentLink2Description: LM111 Web Page; ComponentLink2URL: http://www.national.com/pf/LM/LM111.html; ComponentLink3Description: H08C Package Page; ComponentLink3URL: http://www.national.com/packaging/folders/h08c.html
footprint H08C (Can; 8 Leads; Pin Circle Dia. 5.08 mm; Lead Dia. 0.48 mm (max))
simulation model LM111 (SUBCKT)
pins: 1 GND (power), 2 IN+ (in), 3 IN- (in), 4 V- (power), 5 BAL, 6 BAL/STB, 7 OUT (out), 8 V+ (power)

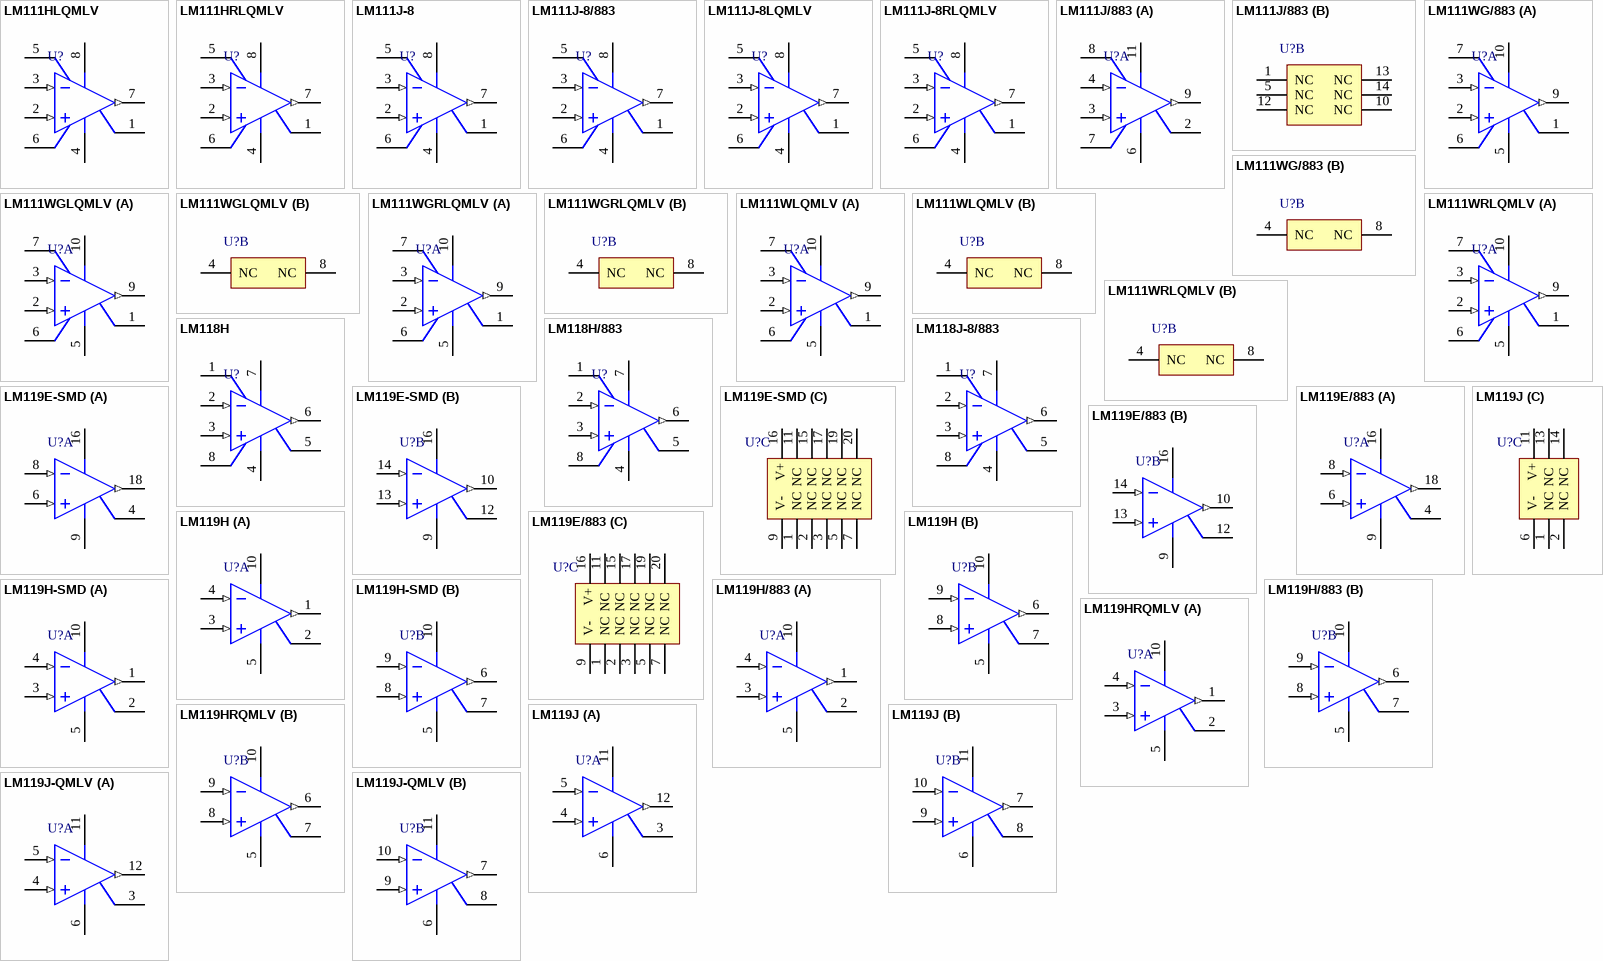
[diagram p4: symbols LM111HLQMLV to LM119J-QMLV]

## LM111HLQMLV
designator U?
Voltage Comparator; PartNumber: LM111HLQMLV; Manufacturer: National Semiconductor; CompType: Amplifiers; PackageTopMarking: NSZSSXXYYA*LM111HLQV Q 5962L0052401VGA; PowerWise: N; Published: 4-Dec-2008; LatestRevisionDate: 13-Jan-2009; LatestRevisionNote: Sim Model Added.; DatasheetVersion: Jan-2001; PackageVersion: revF, Jun-1995; PackageReference: H08C; Publisher: Altium Limited; PackageDescription: Metal Can, TO-99, 8 Lead, .200 Dia., P.C.; RoHS: N; PinCount: 8; Code_JEDEC: TO-99; ComponentLink1Description: LM111 Datasheet; ComponentLink1URL: http://www.national.com/ds/LM/LM111.pdf; ComponentLink2Description: LM111 Web Page; ComponentLink2URL: http://www.national.com/pf/LM/LM111.html; ComponentLink3Description: H08C Package Page; ComponentLink3URL: http://www.national.com/packaging/folders/h08c.html
footprint H08C (Can; 8 Leads; Pin Circle Dia. 5.08 mm; Lead Dia. 0.48 mm (max))
simulation model LM111 (SUBCKT)
pins: 1 GND (power), 2 IN+ (in), 3 IN- (in), 4 V- (power), 5 BAL, 6 BAL/STB, 7 OUT (out), 8 V+ (power)

## LM111HRLQMLV
designator U?
Voltage Comparator; PartNumber: LM111HRLQMLV; Manufacturer: National Semiconductor; CompType: Amplifiers; PackageTopMarking: NSZSSXXYYA*LM111HRLQV Q 5962R0052402VGA; PowerWise: N; Published: 4-Dec-2008; DatasheetVersion: Jan-2001; PackageVersion: revF, Jun-1995; PackageReference: H08C; Publisher: Altium Limited; PackageDescription: Metal Can, TO-99, 8 Lead, .200 Dia., P.C.; RoHS: N; PinCount: 8; Code_JEDEC: TO-99; ComponentLink1Description: LM111 Datasheet; ComponentLink1URL: http://www.national.com/ds/LM/LM111.pdf; ComponentLink2Description: LM111 Web Page; ComponentLink2URL: http://www.national.com/pf/LM/LM111.html; ComponentLink3Description: H08C Package Page; ComponentLink3URL: http://www.national.com/packaging/folders/h08c.html
footprint H08C (Can; 8 Leads; Pin Circle Dia. 5.08 mm; Lead Dia. 0.48 mm (max))
pins: 1 GND (power), 2 IN+ (in), 3 IN- (in), 4 V- (power), 5 BAL, 6 BAL/STB, 7 OUT (out), 8 V+ (power)

## LM111J-8
designator U?
Voltage Comparator; PartNumber: LM111J-8; Manufacturer: National Semiconductor; CompType: Amplifiers; PackageTopMarking: NSUZXYTT*LM111J*-8; PowerWise: N; Published: 4-Dec-2008; LatestRevisionDate: 13-Jan-2009; LatestRevisionNote: Sim Model Added.; DatasheetVersion: Jan-2001; PackageVersion: revM, Jul-2002; PackageReference: J08A; Publisher: Altium Limited; PackageDescription: Cerdip, .400 x .310in Body, 8 Lead, .300in Centers, .100in Pitch; RoHS: N; PinCount: 8; DigiKeyPartNumber: LM111J-8-ND; ComponentLink1Description: LM111 Datasheet; ComponentLink1URL: http://www.national.com/ds/LM/LM111.pdf; ComponentLink2Description: LM111 Web Page; ComponentLink2URL: http://www.national.com/pf/LM/LM111.html; ComponentLink3Description: J08A Package Page; ComponentLink3URL: http://www.national.com/packaging/folders/j08a.html
footprint J08A (DIP, 8-Leads, Row Spacing 7.62mm, Pitch 2.54mm, Body 9.78x6.73mm)
simulation model LM111 (SUBCKT)
pins: 1 GND (power), 2 IN+ (in), 3 IN- (in), 4 V- (power), 5 BAL, 6 BAL/STB, 7 OUT (out), 8 V+ (power)

## LM111J-8/883
designator U?
Voltage Comparator; PartNumber: LM111J-8/883; Manufacturer: National Semiconductor; CompType: Amplifiers; PackageTopMarking: NSZSSXXYYA*LM111J-8*/883 Q; PowerWise: N; Published: 4-Dec-2008; LatestRevisionDate: 13-Jan-2009; LatestRevisionNote: Sim Model Added.; DatasheetVersion: Jan-2001; PackageVersion: revM, Jul-2002; PackageReference: J08A; Publisher: Altium Limited; PackageDescription: Cerdip, .400 x .310in Body, 8 Lead, .300in Centers, .100in Pitch; RoHS: N; PinCount: 8; ComponentLink1Description: LM111 Datasheet; ComponentLink1URL: http://www.national.com/ds/LM/LM111.pdf; ComponentLink2Description: LM111 Web Page; ComponentLink2URL: http://www.national.com/pf/LM/LM111.html; ComponentLink3Description: J08A Package Page; ComponentLink3URL: http://www.national.com/packaging/folders/j08a.html
footprint J08A (DIP, 8-Leads, Row Spacing 7.62mm, Pitch 2.54mm, Body 9.78x6.73mm)
simulation model LM111 (SUBCKT)
pins: 1 GND (power), 2 IN+ (in), 3 IN- (in), 4 V- (power), 5 BAL, 6 BAL/STB, 7 OUT (out), 8 V+ (power)

## LM111J-8LQMLV
designator U?
Voltage Comparator; PartNumber: LM111J-8LQMLV; Manufacturer: National Semiconductor; CompType: Amplifiers; PackageTopMarking: NSZSSXXYYA*LM111J-8L*QV Q 5962L*0052401VPA; PowerWise: N; Published: 4-Dec-2008; DatasheetVersion: Jan-2001; PackageVersion: revM, Jul-2002; PackageReference: J08A; Publisher: Altium Limited; PackageDescription: Cerdip, .400 x .310in Body, 8 Lead, .300in Centers, .100in Pitch; RoHS: N; PinCount: 8; ComponentLink1Description: LM111 Datasheet; ComponentLink1URL: http://www.national.com/ds/LM/LM111.pdf; ComponentLink2Description: LM111 Web Page; ComponentLink2URL: http://www.national.com/pf/LM/LM111.html; ComponentLink3Description: J08A Package Page; ComponentLink3URL: http://www.national.com/packaging/folders/j08a.html
footprint J08A (DIP, 8-Leads, Row Spacing 7.62mm, Pitch 2.54mm, Body 9.78x6.73mm)
pins: 1 GND (power), 2 IN+ (in), 3 IN- (in), 4 V- (power), 5 BAL, 6 BAL/STB, 7 OUT (out), 8 V+ (power)

## LM111J-8RLQMLV
designator U?
Voltage Comparator; PartNumber: LM111J-8RLQMLV; Manufacturer: National Semiconductor; CompType: Amplifiers; PackageTopMarking: NSZSSXXYYA*LM111J-8RL*QV Q 5962R*0052402VPA; PowerWise: N; Published: 4-Dec-2008; DatasheetVersion: Jan-2001; PackageVersion: revM, Jul-2002; PackageReference: J08A; Publisher: Altium Limited; PackageDescription: Cerdip, .400 x .310in Body, 8 Lead, .300in Centers, .100in Pitch; RoHS: N; PinCount: 8; ComponentLink1Description: LM111 Datasheet; ComponentLink1URL: http://www.national.com/ds/LM/LM111.pdf; ComponentLink2Description: LM111 Web Page; ComponentLink2URL: http://www.national.com/pf/LM/LM111.html; ComponentLink3Description: J08A Package Page; ComponentLink3URL: http://www.national.com/packaging/folders/j08a.html
footprint J08A (DIP, 8-Leads, Row Spacing 7.62mm, Pitch 2.54mm, Body 9.78x6.73mm)
pins: 1 GND (power), 2 IN+ (in), 3 IN- (in), 4 V- (power), 5 BAL, 6 BAL/STB, 7 OUT (out), 8 V+ (power)

## LM111J/883
designator U?
Voltage Comparator; PartNumber: LM111J/883; Manufacturer: National Semiconductor; CompType: Amplifiers; PackageTopMarking: NSZSSXXYYA*LM111J/883 Q; PowerWise: N; Published: 4-Dec-2008; LatestRevisionDate: 29-May-2009; LatestRevisionNote: Replaced 8-pin device with 14-pin; DatasheetVersion: Jan-2001; PackageVersion: revJ, Jul-2002; PackageReference: J14A; Publisher: Altium Limited; PackageDescription: Cerdip, .400 x .310in Body, 14 Lead, .300in Centers, .100in Pitch; RoHS: N; PinCount: 14; ComponentLink1Description: LM111 Datasheet; ComponentLink1URL: http://www.national.com/ds/LM/LM111.pdf; ComponentLink2Description: LM111 Web Page; ComponentLink2URL: http://www.national.com/pf/LM/LM111.html; ComponentLink3Description: J14A Package Page; ComponentLink3URL: http://www.national.com/packaging/folders/j14a.html
footprint J14A (DIP, 14-Leads, Row Spacing 7.62mm, Pitch 2.54mm, Body 19.56x6.73mm)
part A pins: 2 GND (power), 3 IN+ (in), 4 IN- (in), 6 V- (power), 7 BAL, 8 BAL/STB, 9 OUT (out), 11 V+ (power)
part B pins: 1 NC, 5 NC, 10 NC, 12 NC, 13 NC, 14 NC

## LM111WG/883
designator U?
Voltage Comparator; PartNumber: LM111WG/883; Manufacturer: National Semiconductor; CompType: Amplifiers; PackageTopMarking: NS*LM111WG*/883 Q*ZSSXXYYA; PowerWise: N; Published: 4-Dec-2008; LatestRevisionDate: 13-Jan-2009; LatestRevisionNote: Sim Model Added.; DatasheetVersion: Jan-2001; PackageVersion: revF, Oct-2008; PackageReference: WG10A; Publisher: Altium Limited; PackageDescription: Cerpack, .270 x .241 x .070in, 10 Lead, .050in Pitch, Gull Wing; RoHS: N; PinCount: 10; ComponentLink1Description: LM111 Datasheet; ComponentLink1URL: http://www.national.com/ds/LM/LM111.pdf; ComponentLink2Description: LM111 Web Page; ComponentLink2URL: http://www.national.com/pf/LM/LM111.html; ComponentLink3Description: WG10A Package Page; ComponentLink3URL: http://www.national.com/packaging/folders/wg10a.html
footprint WG10A_N (CERPACK, 10-Leads, Body 6.9x6.3mm, Pitch 1.27mm, IPC Medium Density)
footprint WG10A_L (CERPACK, 10-Leads, Body 6.9x6.3mm, Pitch 1.27mm, IPC High Density)
footprint WG10A_M (CERPACK, 10-Leads, Body 6.9x6.3mm, Pitch 1.27mm, IPC Low Density)
simulation model LM111 (SUBCKT)
part A pins: 1 GND (power), 2 IN+ (in), 3 IN- (in), 5 V- (power), 6 BAL, 7 BAL/STB, 9 OUT (out), 10 V+ (power)
part B pins: 4 NC, 8 NC

## LM111WGLQMLV
designator U?
Voltage Comparator; PartNumber: LM111WGLQMLV; Manufacturer: National Semiconductor; CompType: Amplifiers; PackageTopMarking: NSLM111W*GLQV Q*5962L005*2401VZA*ZSSXXYYA; PowerWise: N; Published: 4-Dec-2008; LatestRevisionDate: 13-Jan-2009; LatestRevisionNote: Sim Model Added.; DatasheetVersion: Jan-2001; PackageVersion: revF, Oct-2008; PackageReference: WG10A; Publisher: Altium Limited; PackageDescription: Cerpack, .270 x .241 x .070in, 10 Lead, .050in Pitch, Gull Wing; RoHS: N; PinCount: 10; ComponentLink1Description: LM111 Datasheet; ComponentLink1URL: http://www.national.com/ds/LM/LM111.pdf; ComponentLink2Description: LM111 Web Page; ComponentLink2URL: http://www.national.com/pf/LM/LM111.html; ComponentLink3Description: WG10A Package Page; ComponentLink3URL: http://www.national.com/packaging/folders/wg10a.html
footprint WG10A_N (CERPACK, 10-Leads, Body 6.9x6.3mm, Pitch 1.27mm, IPC Medium Density)
footprint WG10A_L (CERPACK, 10-Leads, Body 6.9x6.3mm, Pitch 1.27mm, IPC High Density)
footprint WG10A_M (CERPACK, 10-Leads, Body 6.9x6.3mm, Pitch 1.27mm, IPC Low Density)
simulation model LM111 (SUBCKT)
part A pins: 1 GND (power), 2 IN+ (in), 3 IN- (in), 5 V- (power), 6 BAL, 7 BAL/STB, 9 OUT (out), 10 V+ (power)
part B pins: 4 NC, 8 NC

## LM111WGRLQMLV
designator U?
Voltage Comparator; PartNumber: LM111WGRLQMLV; Manufacturer: National Semiconductor; CompType: Amplifiers; PackageTopMarking: NSLM111W*GRLQV Q*5962R005*2402VZA*ZSSXXYYA; PowerWise: N; Published: 4-Dec-2008; DatasheetVersion: Jan-2001; PackageVersion: revF, Oct-2008; PackageReference: WG10A; Publisher: Altium Limited; PackageDescription: Cerpack, .270 x .241 x .070in, 10 Lead, .050in Pitch, Gull Wing; RoHS: N; PinCount: 10; ComponentLink1Description: LM111 Datasheet; ComponentLink1URL: http://www.national.com/ds/LM/LM111.pdf; ComponentLink2Description: LM111 Web Page; ComponentLink2URL: http://www.national.com/pf/LM/LM111.html; ComponentLink3Description: WG10A Package Page; ComponentLink3URL: http://www.national.com/packaging/folders/wg10a.html
footprint WG10A_N (CERPACK, 10-Leads, Body 6.9x6.3mm, Pitch 1.27mm, IPC Medium Density)
footprint WG10A_L (CERPACK, 10-Leads, Body 6.9x6.3mm, Pitch 1.27mm, IPC High Density)
footprint WG10A_M (CERPACK, 10-Leads, Body 6.9x6.3mm, Pitch 1.27mm, IPC Low Density)
part A pins: 1 GND (power), 2 IN+ (in), 3 IN- (in), 5 V- (power), 6 BAL, 7 BAL/STB, 9 OUT (out), 10 V+ (power)
part B pins: 4 NC, 8 NC

## LM111WLQMLV
designator U?
Voltage Comparator; PartNumber: LM111WLQMLV; Manufacturer: National Semiconductor; CompType: Amplifiers; PackageTopMarking: NSLM111W*LQV Q*ZSSXXYYA*5962L005*2401VHA; PowerWise: N; Published: 4-Dec-2008; DatasheetVersion: Jan-2001; PackageVersion: revH, Sep-2003; PackageReference: W10A; Publisher: Altium Limited; PackageDescription: Cerpack, .270 x .241 x .067in Body, 10 Lead, .050in Pitch; RoHS: N; PinCount: 10; Code_JEDEC: MS-033-AA; ComponentLink1Description: LM111 Datasheet; ComponentLink1URL: http://www.national.com/ds/LM/LM111.pdf; ComponentLink2Description: LM111 Web Page; ComponentLink2URL: http://www.national.com/pf/LM/LM111.html; ComponentLink3Description: W10A Package Page; ComponentLink3URL: http://www.national.com/packaging/folders/w10a.html
footprint W10A (DFP; 10 Leads; Body 6.9 x 6.9 mm (LxW max); Pitch 1.27 mm)
part A pins: 1 GND (power), 2 IN+ (in), 3 IN- (in), 5 V- (power), 6 BAL, 7 BAL/STB, 9 OUT (out), 10 V+ (power)
part B pins: 4 NC, 8 NC

## LM111WRLQMLV
designator U?
Voltage Comparator; PartNumber: LM111WRLQMLV; Manufacturer: National Semiconductor; CompType: Amplifiers; PackageTopMarking: NSLM111W*RLQV Q*ZSSXXYYA*5962R005*2402VHA; PowerWise: N; Published: 4-Dec-2008; DatasheetVersion: Jan-2001; PackageVersion: revH, Sep-2003; PackageReference: W10A; Publisher: Altium Limited; PackageDescription: Cerpack, .270 x .241 x .067in Body, 10 Lead, .050in Pitch; RoHS: N; PinCount: 10; Code_JEDEC: MS-033-AA; ComponentLink1Description: LM111 Datasheet; ComponentLink1URL: http://www.national.com/ds/LM/LM111.pdf; ComponentLink2Description: LM111 Web Page; ComponentLink2URL: http://www.national.com/pf/LM/LM111.html; ComponentLink3Description: W10A Package Page; ComponentLink3URL: http://www.national.com/packaging/folders/w10a.html
footprint W10A (DFP; 10 Leads; Body 6.9 x 6.9 mm (LxW max); Pitch 1.27 mm)
part A pins: 1 GND (power), 2 IN+ (in), 3 IN- (in), 5 V- (power), 6 BAL, 7 BAL/STB, 9 OUT (out), 10 V+ (power)
part B pins: 4 NC, 8 NC

## LM118H
designator U?
Operational Amplifier; PartNumber: LM118H; Manufacturer: National Semiconductor; CompType: Amplifiers; PackageTopMarking: NSZXYTTE# LM118H; PowerWise: N; Published: 4-Dec-2008; DatasheetVersion: Aug-2000; PackageVersion: revF, Jun-1995; PackageReference: H08C; Publisher: Altium Limited; PackageDescription: Metal Can, TO-99, 8 Lead, .200 Dia., P.C.; RoHS: O; PinCount: 8; Code_JEDEC: TO-99; ComponentLink1Description: LM118 Datasheet; ComponentLink1URL: http://www.national.com/ds/LM/LM118.pdf; ComponentLink2Description: LM118 Web Page; ComponentLink2URL: http://www.national.com/pf/LM/LM118.html; ComponentLink3Description: H08C Package Page; ComponentLink3URL: http://www.national.com/packaging/folders/h08c.html
footprint H08C (Can; 8 Leads; Pin Circle Dia. 5.08 mm; Lead Dia. 0.48 mm (max))
pins: 1 BAL/COMP1, 2 IN- (in), 3 IN+ (in), 4 V- (power), 5 BAL/COMP3, 6 OUT (out), 7 V+ (power), 8 COMP2

## LM118H/883
designator U?
Operational Amplifier; PartNumber: LM118; Manufacturer: National Semiconductor; CompType: Amplifiers; PackageTopMarking: NSZSSXXYYA LM118H/883 Q; PowerWise: N; Published: 4-Dec-2008; DatasheetVersion: Aug-2000; PackageVersion: revF, Jun-1995; PackageReference: H08C; Publisher: Altium Limited; PackageDescription: Metal Can, TO-99, 8 Lead, .200 Dia., P.C.; RoHS: N; PinCount: 8; Code_JEDEC: TO-99; ComponentLink1Description: LM118 Datasheet; ComponentLink1URL: http://www.national.com/ds/LM/LM118.pdf; ComponentLink2Description: LM118 Web Page; ComponentLink2URL: http://www.national.com/pf/LM/LM118.html; ComponentLink3Description: H08C Package Page; ComponentLink3URL: http://www.national.com/packaging/folders/h08c.html
footprint H08C (Can; 8 Leads; Pin Circle Dia. 5.08 mm; Lead Dia. 0.48 mm (max))
pins: 1 BAL/COMP1, 2 IN- (in), 3 IN+ (in), 4 V- (power), 5 BAL/COMP3, 6 OUT (out), 7 V+ (power), 8 COMP2

## LM118J-8/883
designator U?
Operational Amplifier; PartNumber: LM118J-8/883; Manufacturer: National Semiconductor; CompType: Amplifiers; PackageTopMarking: NSZSSXXYYA*LM118J-8*/883 Q; PowerWise: N; Published: 4-Dec-2008; DatasheetVersion: Aug-2000; PackageVersion: revM, Jul-2002; PackageReference: J08A; Publisher: Altium Limited; PackageDescription: Cerdip, .400 x .310in Body, 8 Lead, .300in Centers, .100in Pitch; RoHS: N; PinCount: 8; ComponentLink1Description: LM118 Datasheet; ComponentLink1URL: http://www.national.com/ds/LM/LM118.pdf; ComponentLink2Description: LM118 Web Page; ComponentLink2URL: http://www.national.com/pf/LM/LM118.html; ComponentLink3Description: J08A Package Page; ComponentLink3URL: http://www.national.com/packaging/folders/j08a.html
footprint J08A (DIP, 8-Leads, Row Spacing 7.62mm, Pitch 2.54mm, Body 9.78x6.73mm)
pins: 1 BAL/COMP1, 2 IN- (in), 3 IN+ (in), 4 V- (power), 5 BAL/COMP3, 6 OUT (out), 7 V+ (power), 8 COMP2

## LM119E-SMD
designator U?
High Speed Dual Comparator; PartNumber: LM119E-SMD; Manufacturer: National Semiconductor; CompType: Amplifiers; PackageTopMarking: NS ZSSXXYYA*Q*86014012A*27014; PowerWise: N; MilaeroCode: B88; Published: 4-Dec-2008; DatasheetVersion: Jul-2008; PackageVersion: revF, May-2004; PackageReference: E20A; Publisher: Altium Limited; PackageDescription: Leadless Chip Carrier, Type C, 20 Terminal; RoHS: N; PinCount: 20; Code_JEDEC: MS-004-CB; ComponentLink1Description: LM119QML Datasheet; ComponentLink1URL: http://www.national.com/ds/LM/LM119QML.pdf; ComponentLink2Description: LM119 Web Page; ComponentLink2URL: http://www.national.com/pf/LM/LM119.html; ComponentLink3Description: E20A Package Page; ComponentLink3URL: http://www.national.com/packaging/folders/e20a.html
footprint E20A_N (Leadless Chip Carrier, 20-Leads, Body 8.9x8.9mm, Pitch 1.27mm, IPC Medium Density)
footprint E20A_L (Leadless Chip Carrier, 20-Leads, Body 8.9x8.9mm, Pitch 1.27mm, IPC High Density)
footprint E20A_M (Leadless Chip Carrier, 20-Leads, Body 8.9x8.9mm, Pitch 1.27mm, IPC Low Density)
pins on every part: 9 V- (power), 16 V+ (power)
part A pins: 4 GND1 (power), 6 IN1+ (in), 8 IN1- (in), 18 OUT1 (out)
part B pins: 10 OUT2 (out), 12 GND2 (power), 13 IN2+ (in), 14 IN2- (in)
part C pins: 1 NC, 2 NC, 3 NC, 5 NC, 7 NC, 11 NC, 15 NC, 17 NC, 19 NC, 20 NC